# EAGLE library part BGB7XXL7ESD (library U-Infineon-BGB7xxL7ESD-LNA)
High Performance LNAs BGB707L7ESD 0.05 - 10 GHz Operational Bandwidth NFmin = 0.60 dB at 2.4 GHz Source: Datasheet <https://www.infineon.com/cms/en/product/rf-wireless-control/low-noise-amplifier-lna-ics/general-purpose-lnas/bgb707l7esd/> BGB741L7ESD 0.03 - 5 GHz Operational Bandwidth NFmin = 1.05 dB at 2.4 GHz Source: Datasheet <https://www.infineon.com/cms/en/product/rf-wireless-control/low-noise-amplifier-lna-ics/general-purpose-lnas/bgb741l7esd/>
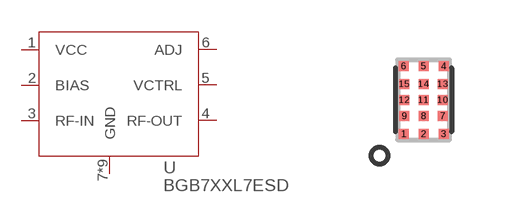
[diagram p0: symbol with the pads of BGB7XXL7ESD; footprint BGB7XXL7ESD]

Designator prefix U

## BGB7XXL7ESD  [BGB7XXL7ESD]
1  VCC  pwr
2  BIAS
3  RF-IN  in
4  RF-OUT  out
5  VCTRL  in
6  ADJ  pwr
7  GND  pwr
8  GND  pwr
9  GND  pwr
10  GND  pwr
11  GND  pwr
12  GND  pwr
13  GND  pwr
14  GND  pwr
15  GND  pwr

## Footprint BGB7XXL7ESD (pad centres in mm)
smd 0.25 x 0.25: 1 -0.5,-0.85; 2 0,-0.85; 3 0.5,-0.85; 4 0.5,0.85; 5 0,0.85; 6 -0.5,0.85; 7 0.48,-0.4; 8 0,-0.4; 9 -0.48,-0.4; 10 0.48,0; 11 0,0; 12 -0.48,0; 13 0.48,0.4; 14 0,0.4; 15 -0.48,0.4